# Altium footprint library RELAY.PcbLib: 5 footprints
Each footprint in its own frame and in the unit in brackets; x right, y up, seen from the top. Pads: shape width x height; smd on the part's side, far side on the other; paste and mask are expansions set on the pad; w line width, h text height; cw(c..) or ccw(c..) is an arc to the next point about the centre after c.
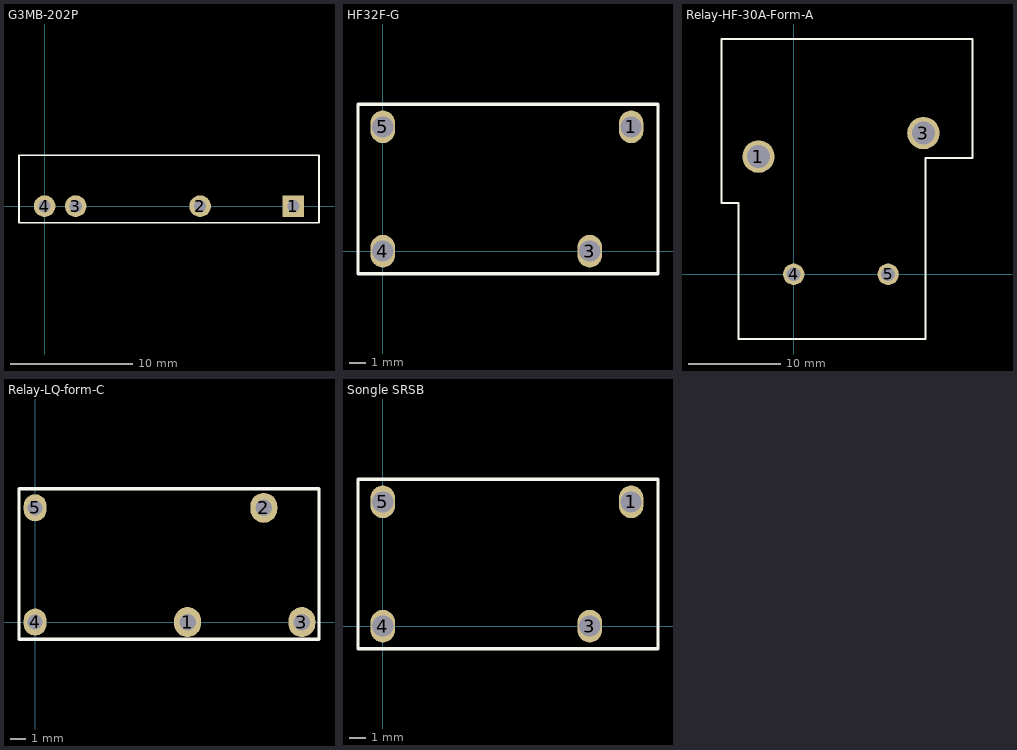
[diagram p0: the footprints below, top view; thin cyan lines are the x and y axes]

## G3MB-202P [mm] "Relay SSR"
pads (4):
  rect 1.762x1.762 hole 1: 1(20.32,0)
  round 1.762 hole 1: 2(12.7,0) 3(2.54,0) 4(0,0)
Top Overlay:
  lines w0.127: -2.09,-1.35 -2.09,4.15 22.41,4.15 22.41,-1.35 -2.09,-1.35
3D body "Omron G3MB-.STEP": height 20.5, standoff -3.9, extent -2.09,-1.35 22.41,4.15

## HF32F-G [mm] "Hongfa 10A 4 pins"
pads (4):
  oval 1.5x2 hole 1.3: 1(15.24,7.62) 3(12.7,0) 4(0,0) 5(0,7.62)
Top Overlay:
  lines w0.203: -1.524,-1.397 16.891,-1.397 16.891,9.017 -1.524,9.017 -1.524,-1.397
Bottom Overlay:
  lines w0.254: 11.176,5.715 12.7,2.921 12.7,1.143 ; 13.716,4.699 15.24,4.699 15.24,6.477
3D body "RELAY_4_PIN__HONGFA_BLACK.STEP": height 15, standoff -2.3, extent -1.253,-1.19 16.747,8.81

## Relay-HF-30A-Form-A [mm]
pads (4):
  round 3.5 hole 2.5: 1(-3.8,12.7) 3(14,15.24)
  round 2.3 hole 1.5: 4(0,0) 5(10.2,0)
Top Overlay:
  lines w0.203: 14.224,-6.985 14.224,12.573 19.224,12.573 ; 14.231,-6.985 -5.969,-6.985 -5.969,7.715 -7.796,7.715 -7.796,25.4 19.304,25.4 ; 19.304,12.573 19.304,25.373
Bottom Overlay:
  lines w0.254: -3.81,14.605 -3.81,20.32 7.112,20.32 10.922,21.844 ; 9.398,18.796 9.398,15.24 11.938,15.24
3D body "User Library-HF105F-1-H.step": height 20.1, standoff -3.6, extent -7.835,-6.985 19.265,25.315

## Relay-LQ-form-C [mm]
pads (5):
  oval 1.8x2 hole 1.1: 1(10.16,0) 2(15.24,7.62) 3(17.78,0)
  oval 1.524x1.8 hole 1: 4(0,0) 5(0,7.62)
Top Overlay:
  lines w0.203: 18.923,8.857 18.923,-1.143 -1.077,-1.143 -1.077,8.89 18.923,8.89
Bottom Overlay:
  lines w0.254: 10.16,1.143 10.16,2.54 16.256,5.207 ; 15.24,5.461 15.24,6.477 ; 17.78,1.143 17.78,2.159
3D body "Panasonic LQ Relay ALQ1 STEP.step": height 16, standoff -3.8, extent -1.11,-1.19 18.89,8.81

## Songle SRSB [mm] "Relay Songle 4 pins"
pads (4):
  oval 1.5x2 hole 1.3: 1(15.24,7.62) 3(12.7,0) 4(0,0) 5(0,7.62)
Top Overlay:
  lines w0.203: -1.524,-1.397 16.891,-1.397 16.891,9.017 -1.524,9.017 -1.524,-1.397
Bottom Overlay:
  lines w0.254: 11.176,5.715 12.7,2.921 12.7,1.143 ; 13.716,4.699 15.24,4.699 15.24,6.477
3D body "RELAY_4_PIN__SONGLE_BLACK.STEP": height 15, standoff -2.3, extent -1.143,-1.19 16.857,8.81